# Altium schematic symbol library ic.SchLib: 55 symbols
Pins are listed as number, name and electrical type; pins without a type are passive.

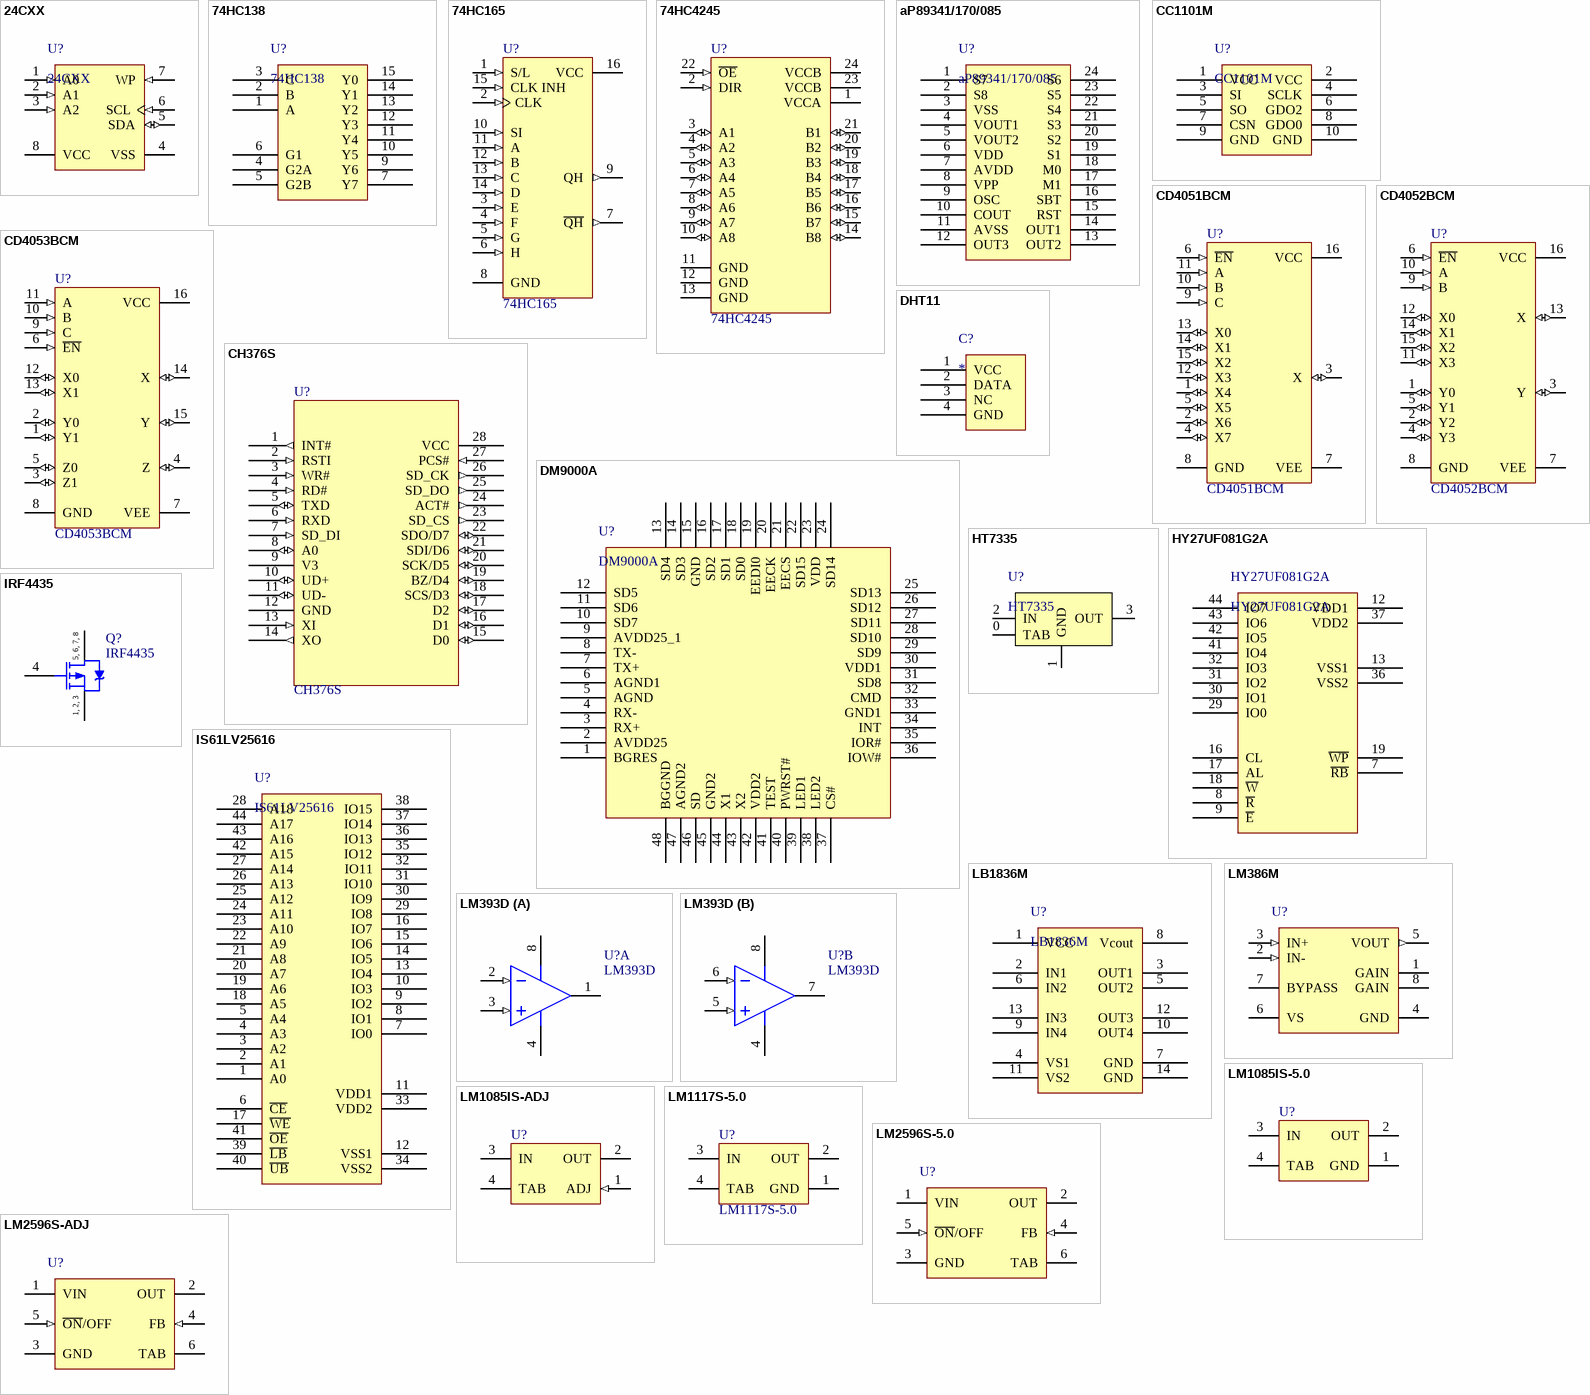
[diagram p0: symbols 24CXX to LM2596S-ADJ]

## 24CXX
designator U?
5V, I2C Serial EEPROM; Published: 29-Jan-2009; DatasheetVersion: revJ, Aug-2008; PackageVersion: revBB, Aug-2009; PackageReference: SOIC-SN8; Publisher: Altium Limited; PackageDescription: 8-Lead Plastic Small Outline (SN) - Narrow, 3.90mm Body [SOIC]; Supplier 1: Digi-Key; Supplier Part Number 1: 24C02C-E/SN-ND; Code_JEDEC: MS-012; Code_IPC: SOIC127P600-8; ComponentLink1Description: Datasheet; ComponentLink1URL: http://ww1.microchip.com/downloads/en/DeviceDoc/21202J.pdf; ComponentLink2Description: Packaging Specification; ComponentLink2URL: http://www.microchip.com/stellent/groups/techpub_sg/documents/packagingspec/en012702.pdf; ComponentLink3Description: Microchip.com Home; ComponentLink3URL: http://www.microchip.com/
footprint SO8_M (SOIC, 8-Leads, Body 4.9x3.9mm, Pitch 1.27mm, IPC Low Density)
pins: 1 A0 (in), 2 A1 (in), 3 A2 (in), 4 VSS (power), 5 SDA (io), 6 SCL (in), 7 WP (in), 8 VCC (power)

## 74HC138
designator U?
footprint SO16_M (SOIC, 16-Leads, Body 9.9x3.9mm, Pitch 1.27mm, IPC Low Density)
pins: 1 A (power), 2 B (power), 3 C (power), 4 G2A (power), 5 G2B (power), 6 G1 (power), 7 Y7, 9 Y6, 10 Y5, 11 Y4, 12 Y3, 13 Y2, 14 Y1, 15 Y0

## 74HC165
designator U?
8-Bit Parallel-Load Shift Register; Published: 8-Jun-2000; LatestRevisionDate: 13-Apr-2006; LatestRevisionNote: IPC-7351 Footprint Added.; DatasheetVersion: May-1997; PackageVersion: Jan-1998; PackageReference: D016; Publisher: Altium Limited; PackageDescription: 16-Pin Small Outline Integrated Circuit 1.27 mm Pitch; Code_IPC: SOIC127P600-16; ComponentLink1Description: Manufacturer Link; ComponentLink1URL: http://www.ti.com/; ComponentLink2Description: Datasheet; ComponentLink2URL: http://www-s.ti.com/sc/ds/sn74hc165.pdf
footprint SO16_M (SOIC, 16-Leads, Body 9.9x3.9mm, Pitch 1.27mm, IPC Low Density)
pins: 1 S/L (in), 2 CLK (in), 3 E (in), 4 F (in), 5 G (in), 6 H (in), 7 ~{QH} (out), 8 GND (power), 9 QH (out), 10 SI (in), 11 A (in), 12 B (in), 13 C (in), 14 D (in), 15 CLK INH (in), 16 VCC (power)

## 74HC4245
designator U?
Octal Bus Transceiver and 3.3-V to 5-V Shifter with 3-State Outputs; Published: 8-Jun-2000; LatestRevisionDate: 04-Mar-2005; LatestRevisionNote: Stylized 3D Model Added.; DatasheetVersion: Jan-1997; PackageVersion: May-1999; PackageReference: DB024; Publisher: Altium Limited; PackageDescription: SSOP, Plastic; 24 Leads; Body Width 5.3 mm; Pitch 0.65 mm; Code_JEDEC: MO-150-AG; ComponentLink1Description: Manufacturer Link; ComponentLink1URL: http://www.ti.com/
footprint SO24W (Small Outline; 24 Leads; Body Width 7.5 mm; Pitch 1.27 mm)
pins: 1 VCCA (power), 2 DIR (in), 3 A1 (io), 4 A2 (io), 5 A3 (io), 6 A4 (io), 7 A5 (io), 8 A6 (io), 9 A7 (io), 10 A8 (io), 11 GND (power), 12 GND (power), 13 GND (power), 14 B8 (io), 15 B7 (io), 16 B6 (io), 17 B5 (io), 18 B4 (io), 19 B3 (io), 20 B2 (io), 21 B1 (io), 22 ~{OE} (in), 23 VCCB (power), 24 VCCB (power)

## aP89341/170/085
designator U?
VOICE OTP IC
footprint DIP-24 (DIP, 24-Pin, Row Spacing 7.62 mm, Pitch 2.54 mm)
pins: 1 S7, 2 S8, 3 VSS, 4 VOUT1, 5 VOUT2, 6 VDD, 7 AVDD, 8 VPP, 9 OSC, 10 COUT, 11 AVSS, 12 OUT3, 13 OUT2, 14 OUT1, 15 RST, 16 SBT, 17 M1, 18 M0, 19 S1, 20 S2, 21 S3, 22 S4, 23 S5, 24 S6

## CC1101M
designator U?
footprint CC1101M
pins: 1 VCC, 2 VCC, 3 SI, 4 SCLK, 5 SO, 6 GDO2, 7 CSN, 8 GDO0, 9 GND, 10 GND

## CD4051BCM
designator U?
8-Channel Analog Multiplexer/Demultiplexer; Published: 17-Jul-2002; LatestRevisionDate: 13-Apr-2006; LatestRevisionNote: IPC-7351 Footprint Added.; DatasheetVersion: Jan-1999; PackageVersion: 2000; PackageReference: M16A; Publisher: Altium Limited; PackageDescription: 16-Pin Small Outline Integrated Circuit 1.27 mm Pitch; Code_IPC: SOIC127P600-16; ComponentLink1Description: Manufacturer Link; ComponentLink1URL: http://www.fairchildsemi.com/; ComponentLink2Description: Datasheet; ComponentLink2URL: http://www.fairchildsemi.com/ds/CD%2FCD4052BC.pdf
3D model M16A (16-Pin Small Outline Integrated Circuit 1.27 mm Pitch)
footprint SO16_M (SOIC, 16-Leads, Body 9.9x3.9mm, Pitch 1.27mm, IPC Low Density)
pins: 1 X4 (io), 2 X6 (io), 3 X (io), 4 X7 (io), 5 X5 (io), 6 ~{EN} (in), 7 VEE (power), 8 GND (power), 9 C (in), 10 B (in), 11 A (in), 12 X3 (io), 13 X0 (io), 14 X1 (io), 15 X2 (io), 16 VCC (power)

## CD4052BCM
designator U?
Dual 4-Channel Analog Multiplexer/Demultiplexer; Published: 17-Jul-2002; LatestRevisionDate: 13-Apr-2006; LatestRevisionNote: IPC-7351 Footprint Added.; DatasheetVersion: Jan-1999; PackageVersion: 2000; PackageReference: M16A; Publisher: Altium Limited; PackageDescription: 16-Pin Small Outline Integrated Circuit 1.27 mm Pitch; Code_IPC: SOIC127P600-16; ComponentLink1Description: Manufacturer Link; ComponentLink1URL: http://www.fairchildsemi.com/; ComponentLink2Description: Datasheet; ComponentLink2URL: http://www.fairchildsemi.com/ds/CD%2FCD4052BC.pdf
3D model M16A (16-Pin Small Outline Integrated Circuit 1.27 mm Pitch)
footprint SO16_M (SOIC, 16-Leads, Body 9.9x3.9mm, Pitch 1.27mm, IPC Low Density)
pins: 1 Y0 (io), 2 Y2 (io), 3 Y (io), 4 Y3 (io), 5 Y1 (io), 6 ~{EN} (in), 7 VEE (power), 8 GND (power), 9 B (in), 10 A (in), 11 X3 (io), 12 X0 (io), 13 X (io), 14 X1 (io), 15 X2 (io), 16 VCC (power)

## CD4053BCM
designator U?
Triple 2-Channnel Analog Multiplexer/Demutiplexer; Published: 17-Jul-2002; LatestRevisionDate: 13-Apr-2006; LatestRevisionNote: IPC-7351 Footprint Added.; DatasheetVersion: Jan-1999; PackageVersion: 2000; PackageReference: M16A; Publisher: Altium Limited; PackageDescription: 16-Pin Small Outline Integrated Circuit 1.27 mm Pitch; Code_IPC: SOIC127P600-16; ComponentLink1Description: Manufacturer Link; ComponentLink1URL: http://www.fairchildsemi.com/; ComponentLink2Description: Datasheet; ComponentLink2URL: http://www.fairchildsemi.com/ds/CD%2FCD4052BC.pdf
3D model M16A (16-Pin Small Outline Integrated Circuit 1.27 mm Pitch)
footprint SO16_M (SOIC, 16-Leads, Body 9.9x3.9mm, Pitch 1.27mm, IPC Low Density)
pins: 1 Y1 (io), 2 Y0 (io), 3 Z1 (io), 4 Z (io), 5 Z0 (io), 6 ~{EN} (in), 7 VEE (power), 8 GND (power), 9 C (in), 10 B (in), 11 A (in), 12 X0 (io), 13 X1 (io), 14 X (io), 15 Y (io), 16 VCC (power)

## CH376S
designator U?
USB Host and SD card Host with File System & USB Device for MCU, parallel / SPI / UART Serial
footprint SOIC127P1047-28M (SOIC, 28-Leads, Body 18.2x7.5mm, Pitch 1.27mm, IPC Low Density)
pins: 1 INT# (out), 2 RSTI (in), 3 WR# (in), 4 RD# (in), 5 TXD (io), 6 RXD (in), 7 SD_DI (in), 8 A0 (io), 9 V3 (power), 10 UD+ (io), 11 UD- (io), 12 GND (power), 13 XI (in), 14 XO (out), 15 D0 (io), 16 D1 (io), 17 D2 (io), 18 SCS/D3 (io), 19 BZ/D4 (io), 20 SCK/D5 (io), 21 SDI/D6 (io), 22 SDO/D7 (io), 23 SD_CS (out), 24 ACT# (out), 25 SD_DO (out), 26 SD_CK (out), 27 PCS# (in), 28 VCC (power)

## DHT11
designator C?
pins: 1 VCC, 2 DATA, 3 NC, 4 GND

## DM9000A
designator U?
footprint SQFP50P900X900-48M (Shrink QFP, 48-Leads, Body 7x7mm, Pitch 0.5mm, IPC Low Density)
footprint SQFP50P900X900-48N (Shrink QFP, 48-Leads, Body 7x7mm, Pitch 0.5mm, IPC Medium Density)
pins: 1 BGRES, 2 AVDD25, 3 RX+, 4 RX-, 5 AGND, 6 AGND1, 7 TX+, 8 TX-, 9 AVDD25_1, 10 SD7, 11 SD6, 12 SD5, 13 SD4, 14 SD3, 15 GND, 16 SD2, 17 SD1, 18 SD0, 19 EEDI0, 20 EECK, 21 EECS, 22 SD15, 23 VDD, 24 SD14, 25 SD13, 26 SD12, 27 SD11, 28 SD10, 29 SD9, 30 VDD1, 31 SD8, 32 CMD, 33 GND1, 34 INT, 35 IOR#, 36 IOW#, 37 CS#, 38 LED2, 39 LED1, 40 PWRST#, 41 TEST, 42 VDD2, 43 X2, 44 X1, 45 GND2, 46 SD, 47 AGND2, 48 BGGND

## HT7335
designator U?
footprint SOT89M (SOT, 3-Leads, Body 4.6 x 2.6 mm, Pitch 1.5mm, IPC Low Density)
pins: 0 TAB, 1 GND, 2 IN, 3 OUT

## HY27UF081G2A
designator HY27UF081G2A
footprint TSSOP50P2000-48AM (TSSOP, 48-Leads, Body 12x18.4mm, Pitch 0.5mm, IPC Low Density)
footprint TSSOP50P2000-48AN (TSSOP, 48-Leads, Body 12x18.4mm, Pitch 0.5mm, IPC Medium Density)
pins: 1 NC hidden, 2 NC hidden, 3 NC hidden, 4 NC hidden, 5 NC hidden, 6 NC hidden, 7 ~{RB}, 8 ~{R}, 9 ~{E}, 10 NC hidden, 11 NC hidden, 12 VDD1, 13 VSS1, 14 NC hidden, 15 NC hidden, 16 CL, 17 AL, 18 ~{W}, 19 ~{WP}, 20 NC hidden, 21 NC hidden, 22 NC hidden, 23 NC hidden, 24 NC hidden, 25 NC hidden, 26 NC hidden, 27 NC hidden, 28 NC hidden, 29 IO0, 30 IO1, 31 IO2, 32 IO3, 33 NC hidden, 34 NC hidden, 35 NC hidden, 36 VSS2, 37 VDD2, 38 NC hidden, 39 NC hidden, 40 NC hidden, 41 IO4, 42 IO5, 43 IO6, 44 IO7, 45 NC hidden, 46 NC hidden, 47 NC hidden, 48 NC hidden

## IRF4435
designator Q?
HEXFET Power MOSFET; Published: 17-Sep-2003; LatestRevisionDate: 13-Apr-2006; LatestRevisionNote: IPC-7351 Footprint Added.; DatasheetVersion: 12-Jun-2001; PackageVersion: Feb-2001; PackageReference: SO-8; Publisher: Altium Limited; PackageDescription: 8-Pin Plastic Small Outline Integrated Circuit 1.27 mm Pitch; Code_JEDEC: MS-012-AA; Code_IPC: SOIC127P600-8; ComponentLink1Description: Manufacturer Link; ComponentLink1URL: http://www.irf.com/; ComponentLink2Description: Datasheet; ComponentLink2URL: http://www.irf.com/product-info/datasheets/data/IRF4435.pdf
footprint SO8_M (SOIC, 8-Leads, Body 4.9x3.9mm, Pitch 1.27mm, IPC Low Density)
pins: 1 S, 2 S, 3 S, 4 G, 5 D, 6 D, 7 D, 8 D
text: 5, 6, 7, 8; 1, 2, 3

## IS61LV25616
designator U?
footprint SOP80P1176-44M (SOP, 44-Leads, Body 18.4x10.16mm, Pitch 0.8mm, IPC Low Density)
footprint SOP80P1176-44N (SOP, 44-Leads, Body 18.4x10.16mm, Pitch 0.8mm, IPC Medium Density)
pins: 1 A0, 2 A1, 3 A2, 4 A3, 5 A4, 6 ~{CE}, 7 IO0, 8 IO1, 9 IO2, 10 IO3, 11 VDD1, 12 VSS1, 13 IO4, 14 IO5, 15 IO6, 16 IO7, 17 ~{WE}, 18 A5, 19 A6, 20 A7, 21 A8, 22 A9, 23 A10, 24 A11, 25 A12, 26 A13, 27 A14, 28 A18, 29 IO8, 30 IO9, 31 IO10, 32 IO11, 33 VDD2, 34 VSS2, 35 IO12, 36 IO13, 37 IO14, 38 IO15, 39 ~{LB}, 40 ~{UB}, 41 ~{OE}, 42 A15, 43 A16, 44 A17

## LB1836M
designator U?
footprint SOP100P800-14M
pins: 1 VCC, 2 IN1, 3 OUT1, 4 VS1, 5 OUT2, 6 IN2, 7 GND, 8 Vcout, 9 IN4, 10 OUT4, 11 VS2, 12 OUT3, 13 IN3, 14 GND

## LM386M
designator U?
Low Voltage Audio Power Amplifier, 8-pin Narrow SOIC; PartNumber: LM386M-1; Manufacturer: National Semiconductor; PackageTopMarking: NSZXTT*LM386*M-1; PowerWise: N; CompType: Audio IC; Published: 4-Dec-2008; DatasheetVersion: Aug-2000; PackageVersion: revM, May-2009; PackageReference: M08A; Publisher: Altium Limited; PackageDescription: SOIC Narrow, 4.9 x 3.9 x 1.45mm, 8 Lead, 1.27mm Pitch; Supplier 1: Farnell; Supplier Part Number 1: 9488324; RoHS: N; PinCount: 8; Code_JEDEC: MS-012-AA; Code_IPC: SOIC127P600-8; ComponentLink1Description: LM386 Datasheet; ComponentLink1URL: http://www.national.com/ds/LM/LM386.pdf; ComponentLink2Description: LM386 Web Page; ComponentLink2URL: http://www.national.com/pf/LM/LM386.html; ComponentLink3Description: M08A Package Page; ComponentLink3URL: http://www.national.com/packaging/folders/m08a.html
footprint SO8_M (SOIC, 8-Leads, Body 4.9x3.9mm, Pitch 1.27mm, IPC Low Density)
pins: 1 GAIN, 2 IN- (in), 3 IN+ (in), 4 GND (power), 5 VOUT (out), 6 VS (power), 7 BYPASS, 8 GAIN

## LM393D
designator U?
Low-Power Dual Voltage Comparator; Published: 24-Aug-2001; LatestRevisionDate: 13-Apr-2006; LatestRevisionNote: IPC-7351 Footprint Added.; DatasheetVersion: Jun-1998; PackageVersion: Dec-2002; PackageReference: SO8; Publisher: Altium Limited; PackageDescription: 8-Pin Small Outline Integrated Circuit 1.27 mm Pitch; Code_JEDEC: MS-012-AA; Code_IPC: SOIC127P600-8; ComponentLink1Description: Manufacturer Link; ComponentLink1URL: http://www.st.com/; ComponentLink2Description: Datasheet; ComponentLink2URL: http://www.st.com/stonline/products/literature/ds/2164/lm293.pdf
3D model SO8 (8-Pin Small Outline Integrated Circuit 1.27 mm Pitch)
footprint SO8_M (SOIC, 8-Leads, Body 4.9x3.9mm, Pitch 1.27mm, IPC Low Density)
pins on every part: 4 V- (power), 8 V+ (power)
part A pins: 1 OUT (oc), 2 IN- (in), 3 IN+ (in)
part B pins: 5 IN+ (in), 6 IN- (in), 7 OUT (oc)

## LM1085IS-5.0
designator U?
3A Low Dropout Positive Regulators, 3-pin TO-263; PartNumber: LM1085IS-5.0; Manufacturer: National Semiconductor; PackageTopMarking: NSUZXYTTE#*LM1085*IS-5.0; PowerWise: N; CompType: LDO IC; Published: 4-Dec-2008; DatasheetVersion: Jun-2005; PackageVersion: revF, Apr-2005; PackageReference: TS3B; Publisher: Altium Limited; PackageDescription: TO-263, Molded, .400 x .390 x .180in, 3 Lead, .1in Pitch, Surface Mount; RoHS: N; PinCount: 3; Code_JEDEC: MO-169-AA; ComponentLink1Description: LM1085 Datasheet; ComponentLink1URL: http://www.national.com/ds/LM/LM1085.pdf; ComponentLink2Description: LM1085 Web Page; ComponentLink2URL: http://www.national.com/pf/LM/LM1085.html; ComponentLink3Description: TS3B Package Page; ComponentLink3URL: http://www.national.com/packaging/folders/ts3b.html
footprint TS3B_M (D2-PAK, 4-Leads, Body 8.6x10.2mm, Pitch 2.54mm, Lead Span 14.2mm, IPC Low Density)
pins: 1 GND (power), 2 OUT (power), 3 IN (power), 4 TAB (power)

## LM1085IS-ADJ
designator U?
3A Low Dropout Positive Regulators, 3-pin TO-263; PartNumber: LM1085IS-ADJ; Manufacturer: National Semiconductor; PackageTopMarking: NSUZXYTTE#*LM1085*IS-ADJ; PowerWise: N; CompType: LDO IC; Published: 4-Dec-2008; DatasheetVersion: Jun-2005; PackageVersion: revF, Apr-2005; PackageReference: TS3B; Publisher: Altium Limited; PackageDescription: TO-263, Molded, .400 x .390 x .180in, 3 Lead, .1in Pitch, Surface Mount; Supplier 1: Farnell; Supplier Part Number 1: 7614020; RoHS: N; PinCount: 3; Code_JEDEC: MO-169-AA; ComponentLink1Description: LM1085 Datasheet; ComponentLink1URL: http://www.national.com/ds/LM/LM1085.pdf; ComponentLink2Description: LM1085 Web Page; ComponentLink2URL: http://www.national.com/pf/LM/LM1085.html; ComponentLink3Description: TS3B Package Page; ComponentLink3URL: http://www.national.com/packaging/folders/ts3b.html
footprint TS3B_M (D2-PAK, 4-Leads, Body 8.6x10.2mm, Pitch 2.54mm, Lead Span 14.2mm, IPC Low Density)
pins: 1 ADJ (in), 2 OUT (power), 3 IN (power), 4 TAB (power)

## LM1117S-5.0
designator U?
800mA Low-Dropout Linear Regulator; Manufacturer: National Semiconductor; CompType: LDO IC; PackageTopMarking: NSUZXYTTE#*LM1117S*5.0; Published: 4-Dec-2008; DatasheetVersion: Apr-2006; PackageVersion: revF, Apr-2005; PackageReference: TS3B; Publisher: Altium Limited; PackageDescription: TO-263, Molded, .400 x .390 x .180in, 3 Lead, .1in Pitch, Surface Mount; PartNumber: LM1117S-5.0; RoHS: Y; PinCount: 3; DigiKeyPartNumber: LM1117S-5.0-ND; Code_JEDEC: MO-169-AA; ComponentLink1Description: LM1117 Datasheet; ComponentLink1URL: http://www.national.com/ds/LM/LM1117.pdf; ComponentLink2Description: LM1117 Web Page; ComponentLink2URL: http://www.national.com/pf/LM/LM1117.html; ComponentLink3Description: TS3B Package Page; ComponentLink3URL: http://www.national.com/packaging/folders/ts3b.html
footprint TS3B_N (D2-PAK, 4-Leads, Body 8.6x10.2mm, Pitch 2.54mm, Lead Span 14.2mm, IPC Medium Density)
footprint TS3B_L (D2-PAK, 4-Leads, Body 8.6x10.2mm, Pitch 2.54mm, Lead Span 14.2mm, IPC High Density)
footprint TS3B_M (D2-PAK, 4-Leads, Body 8.6x10.2mm, Pitch 2.54mm, Lead Span 14.2mm, IPC Low Density)
footprint SOT223-4M (SOT223/SC73, 4-Leads, Body 6.5x3.5mm, Pitch 2.3mm, Lead Span 7mm, IPC Low Density)
pins: 1 GND (power), 2 OUT (power), 3 IN (power), 4 TAB (power)

## LM2596S-5.0
designator U?
SIMPLE SWITCHER?Power Converter 150 KHz 3A Step-Down Voltage Regulator, 5-pin TO-263; PartNumber: LM2596S-5.0; Manufacturer: National Semiconductor; PackageTopMarking: NSUZXYTTE#*LM2596S*-5.0 P+; PowerWise: N; Published: 4-Dec-2008; DatasheetVersion: May-2002; PackageVersion: revD, Apr-2005; PackageReference: TS5B; Publisher: Altium Limited; PackageDescription: TO-263, Molded, .400 x .390 x .180in, 5 Lead, .067in Pitch, Surface Mount; Supplier 1: Farnell; Supplier Part Number 1: 1214546; RoHS: N; PinCount: 5; CompType: Switcher; Code_JEDEC: MO-169-AB; ComponentLink1Description: LM2596 Datasheet; ComponentLink1URL: http://www.national.com/ds/LM/LM2596.pdf; ComponentLink2Description: LM2596 Web Page; ComponentLink2URL: http://www.national.com/pf/LM/LM2596.html; ComponentLink3Description: TS5B Package Page; ComponentLink3URL: http://www.national.com/packaging/folders/ts5b.html
footprint TS5B_N (D2-PAK, 6-Leads, Body 8.6x10.2mm, Pitch 1.7mm, Lead Span 14.1mm, IPC Medium Density)
footprint TS5B_M (D2-PAK, 6-Leads, Body 8.6x10.2mm, Pitch 1.7mm, Lead Span 14.1mm, IPC Low Density)
pins: 1 VIN (power), 2 OUT (power), 3 GND (power), 4 FB (in), 5 ~{ON}/OFF (in), 6 TAB (power)

## LM2596S-ADJ
designator U?
SIMPLE SWITCHER?Power Converter 150 KHz 3A Step-Down Voltage Regulator, 5-pin TO-263; PartNumber: LM2596S-ADJ; Manufacturer: National Semiconductor; PackageTopMarking: NSUZXYTTE#*LM2596S*-ADJ P+; PowerWise: N; Published: 4-Dec-2008; DatasheetVersion: May-2002; PackageVersion: revD, Apr-2005; PackageReference: TS5B; Publisher: Altium Limited; PackageDescription: TO-263, Molded, .400 x .390 x .180in, 5 Lead, .067in Pitch, Surface Mount; Supplier 1: Farnell; Supplier Part Number 1: 1523864; Supplier 2: Farnell; Supplier Part Number 2: 9494367; RoHS: N; PinCount: 5; CompType: Switcher; Code_JEDEC: MO-169-AB; ComponentLink1Description: LM2596 Datasheet; ComponentLink1URL: http://www.national.com/ds/LM/LM2596.pdf; ComponentLink2Description: LM2596 Web Page; ComponentLink2URL: http://www.national.com/pf/LM/LM2596.html; ComponentLink3Description: TS5B Package Page; ComponentLink3URL: http://www.national.com/packaging/folders/ts5b.html
footprint TS5B_N (D2-PAK, 6-Leads, Body 8.6x10.2mm, Pitch 1.7mm, Lead Span 14.1mm, IPC Medium Density)
footprint TS5B_M (D2-PAK, 6-Leads, Body 8.6x10.2mm, Pitch 1.7mm, Lead Span 14.1mm, IPC Low Density)
pins: 1 VIN (power), 2 OUT (power), 3 GND (power), 4 FB (in), 5 ~{ON}/OFF (in), 6 TAB (power)

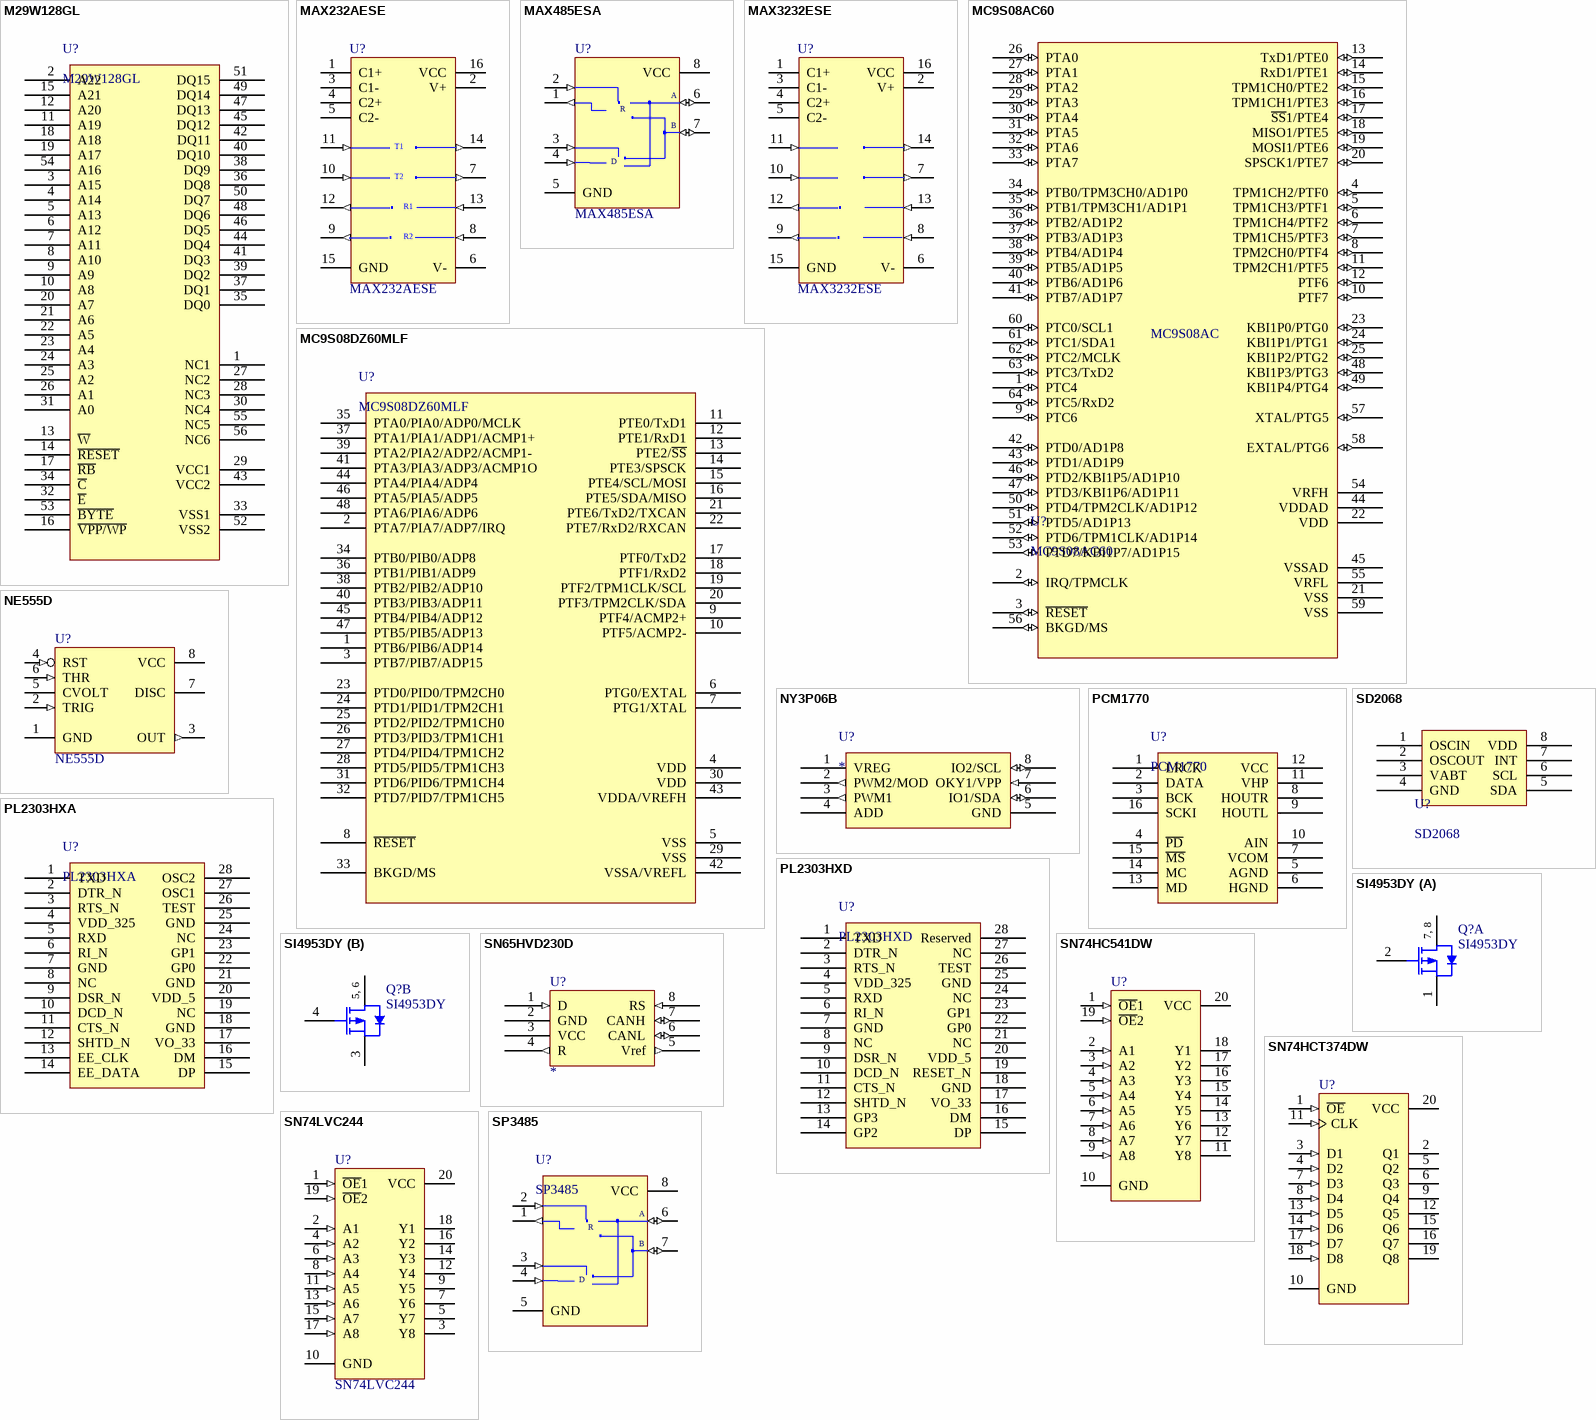
[diagram p1: symbols M29W128GL to SP3485]

## M29W128GL
designator U?
footprint TSSOP50P2000-56M (TSSOP, 56-Leads, Body 14x18.4mm, Pitch 0.5mm, IPC Low Density)
footprint TSSOP50P2000-56N (TSSOP, 56-Leads, Body 14x18.4mm, Pitch 0.5mm, IPC Medium Density)
pins: 1 NC1, 2 A22, 3 A15, 4 A14, 5 A13, 6 A12, 7 A11, 8 A10, 9 A9, 10 A8, 11 A19, 12 A20, 13 ~{W}, 14 ~{RESET}, 15 A21, 16 ~{VPP/WP}, 17 ~{RB}, 18 A18, 19 A17, 20 A7, 21 A6, 22 A5, 23 A4, 24 A3, 25 A2, 26 A1, 27 NC2, 28 NC3, 29 VCC1, 30 NC4, 31 A0, 32 ~{E}, 33 VSS1, 34 ~{C}, 35 DQ0, 36 DQ8, 37 DQ1, 38 DQ9, 39 DQ2, 40 DQ10, 41 DQ3, 42 DQ11, 43 VCC2, 44 DQ4, 45 DQ12, 46 DQ5, 47 DQ13, 48 DQ6, 49 DQ14, 50 DQ7, 51 DQ15, 52 VSS2, 53 ~{BYTE}, 54 A16, 55 NC5, 56 NC6

## MAX232AESE
designator U?
+5V-Powered, Multichannel RS-232 Driver/Receiver; Published: 16-Jan-2001; LatestRevisionDate: 13-Apr-2006; LatestRevisionNote: IPC-7351 Footprint Added.; DatasheetVersion: Nov-1997; PackageReference: NSO16; Publisher: Altium Limited; PackageDescription: 16-Pin Small Outline Integrated Circuit 1.27 mm Pitch; Code_JEDEC: MS-012-AC; Code_IPC: SOIC127P600-16; ComponentLink1Description: Manufacturer Link; ComponentLink1URL: http://www.maxim-ic.com/; ComponentLink2Description: Datasheet; ComponentLink2URL: http://pdfserv.maxim-ic.com/en/ds/MAX220-MAX249.pdf
3D model NSO16 (16-Pin Small Outline Integrated Circuit 1.27 mm Pitch)
footprint SO16_M (SOIC, 16-Leads, Body 9.9x3.9mm, Pitch 1.27mm, IPC Low Density)
pins: 1 C1+, 2 V+ (power), 3 C1-, 4 C2+, 5 C2-, 6 V- (power), 7 T2OUT (out), 8 R2IN (in), 9 R2OUT (out), 10 T2IN (in), 11 T1IN (in), 12 R1OUT (out), 13 R1IN (in), 14 T1OUT (out), 15 GND (power), 16 VCC (power)
text: T1; T2; R1; R2

## MAX485ESA
designator U?
Low-Power, Slew-Rate-Limited RS-485/RS-422 Transceiver; Published: 16-Jan-2001; LatestRevisionDate: 13-Apr-2006; LatestRevisionNote: IPC-7351 Footprint Added.; DatasheetVersion: Feb-1996; PackageReference: NSO8; Publisher: Altium Limited; PackageDescription: 8-Pin Small Outline Integrated Circuit 1.27 mm Pitch; Code_JEDEC: MS-012-AA; Code_IPC: SOIC127P600-8; ComponentLink1Description: Manufacturer Link; ComponentLink1URL: http://www.maxim-ic.com/; ComponentLink2Description: Datasheet; ComponentLink2URL: http://pdfserv.maxim-ic.com/en/ds/MAX1487-MAX491.pdf
3D model NSO8 (8-Pin Small Outline Integrated Circuit 1.27 mm Pitch)
footprint SO8_M (SOIC, 8-Leads, Body 4.9x3.9mm, Pitch 1.27mm, IPC Low Density)
pins: 1 RO (out), 2 ~{RE} (in), 3 DE (in), 4 DI (in), 5 GND (power), 6 A (io), 7 B (io), 8 VCC (power)
text: R; D

## MAX3232ESE
designator U?
3.0V TO 5.5V, Low-Power, up to 1Mbps, True RS-232 Transceiver Using Four 0.1礔 External Capacitor; Published: 16-Jan-2001; LatestRevisionDate: 13-Apr-2006; LatestRevisionNote: IPC-7351 Footprint Added.; DatasheetVersion: Mar-1999; PackageReference: NSO16; Publisher: Altium Limited; PackageDescription: 16-Pin Small Outline Integrated Circuit 1.27 mm Pitch; Code_JEDEC: MS-012-AC; Code_IPC: SOIC127P600-16; ComponentLink1Description: Manufacturer Link; ComponentLink1URL: http://www.maxim-ic.com/; ComponentLink2Description: Datasheet; ComponentLink2URL: http://pdfserv.maxim-ic.com/en/ds/MAX3222-MAX3241.pdf
3D model NSO16 (16-Pin Small Outline Integrated Circuit 1.27 mm Pitch)
footprint SO16_M (SOIC, 16-Leads, Body 9.9x3.9mm, Pitch 1.27mm, IPC Low Density)
pins: 1 C1+, 2 V+ (power), 3 C1-, 4 C2+, 5 C2-, 6 V- (power), 7 T2OUT (out), 8 R2IN (in), 9 R2OUT (out), 10 T2IN (in), 11 T1IN (in), 12 R1OUT (out), 13 R1IN (in), 14 T1OUT (out), 15 GND (power), 16 VCC (power)

## MC9S08AC60
designator U?  value MC9S08AC
HCS08 MC9S08AC60
footprint QFP80P1720X1720-64N (QFP, 64-Leads, Body 14x14mm, Pitch 0.8mm, IPC Medium Density)
footprint QFP80P1720X1720-64M (QFP, 64-Leads, Body 14x14mm, Pitch 0.8mm, IPC Low Density)
pins: 1 PTC4 (io), 2 IRQ/TPMCLK (io), 3 ~{RESET} (io), 4 TPM1CH2/PTF0 (io), 5 TPM1CH3/PTF1 (io), 6 TPM1CH4/PTF2 (io), 7 TPM1CH5/PTF3 (io), 8 TPM2CH0/PTF4 (io), 9 PTC6 (io), 10 PTF7 (io), 11 TPM2CH1/PTF5 (io), 12 PTF6 (io), 13 TxD1/PTE0 (io), 14 RxD1/PTE1 (io), 15 TPM1CH0/PTE2 (io), 16 TPM1CH1/PTE3 (io), 17 ~{SS}1/PTE4 (io), 18 MISO1/PTE5 (io), 19 MOSI1/PTE6 (io), 20 SPSCK1/PTE7 (io), 21 VSS, 22 VDD, 23 KBI1P0/PTG0 (io), 24 KBI1P1/PTG1 (io), 25 KBI1P2/PTG2 (io), 26 PTA0 (io), 27 PTA1 (io), 28 PTA2 (io), 29 PTA3 (io), 30 PTA4 (io), 31 PTA5 (io), 32 PTA6 (io), 33 PTA7 (io), 34 PTB0/TPM3CH0/AD1P0 (io), 35 PTB1/TPM3CH1/AD1P1 (io), 36 PTB2/AD1P2 (io), 37 PTB3/AD1P3 (io), 38 PTB4/AD1P4 (io), 39 PTB5/AD1P5 (io), 40 PTB6/AD1P6 (io), 41 PTB7/AD1P7 (io), 42 PTD0/AD1P8 (io), 43 PTD1/AD1P9 (io), 44 VDDAD, 45 VSSAD, 46 PTD2/KBI1P5/AD1P10 (io), 47 PTD3/KBI1P6/AD1P11 (io), 48 KBI1P3/PTG3 (io), 49 KBI1P4/PTG4 (io), 50 PTD4/TPM2CLK/AD1P12 (io), 51 PTD5/AD1P13 (io), 52 PTD6/TPM1CLK/AD1P14 (io), 53 PTD7/KBI1P7/AD1P15 (io), 54 VRFH, 55 VRFL, 56 BKGD/MS (io), 57 XTAL/PTG5 (io), 58 EXTAL/PTG6 (io), 59 VSS, 60 PTC0/SCL1 (io), 61 PTC1/SDA1 (io), 62 PTC2/MCLK (io), 63 PTC3/TxD2 (io), 64 PTC5/RxD2 (io)

## MC9S08DZ60MLF
designator U?
footprint SQFP50P900X900-48M (Shrink QFP, 48-Leads, Body 7x7mm, Pitch 0.5mm, IPC Low Density)
footprint SQFP50P900X900-48N (Shrink QFP, 48-Leads, Body 7x7mm, Pitch 0.5mm, IPC Medium Density)
pins: 1 PTB6/PIB6/ADP14, 2 PTA7/PIA7/ADP7/IRQ, 3 PTB7/PIB7/ADP15, 4 VDD, 5 VSS, 6 PTG0/EXTAL, 7 PTG1/XTAL, 8 ~{RESET}, 9 PTF4/ACMP2+, 10 PTF5/ACMP2-, 11 PTE0/TxD1, 12 PTE1/RxD1, 13 PTE2/~{SS}, 14 PTE3/SPSCK, 15 PTE4/SCL/MOSI, 16 PTE5/SDA/MISO, 17 PTF0/TxD2, 18 PTF1/RxD2, 19 PTF2/TPM1CLK/SCL, 20 PTF3/TPM2CLK/SDA, 21 PTE6/TxD2/TXCAN, 22 PTE7/RxD2/RXCAN, 23 PTD0/PID0/TPM2CH0, 24 PTD1/PID1/TPM2CH1, 25 PTD2/PID2/TPM1CH0, 26 PTD3/PID3/TPM1CH1, 27 PTD4/PID4/TPM1CH2, 28 PTD5/PID5/TPM1CH3, 29 VSS, 30 VDD, 31 PTD6/PID6/TPM1CH4, 32 PTD7/PID7/TPM1CH5, 33 BKGD/MS, 34 PTB0/PIB0/ADP8, 35 PTA0/PIA0/ADP0/MCLK, 36 PTB1/PIB1/ADP9, 37 PTA1/PIA1/ADP1/ACMP1+, 38 PTB2/PIB2/ADP10, 39 PTA2/PIA2/ADP2/ACMP1-, 40 PTB3/PIB3/ADP11, 41 PTA3/PIA3/ADP3/ACMP1O, 42 VSSA/VREFL, 43 VDDA/VREFH, 44 PTA4/PIA4/ADP4, 45 PTB4/PIB4/ADP12, 46 PTA5/PIA5/ADP5, 47 PTB5/PIB5/ADP13, 48 PTA6/PIA6/ADP6

## NE555D
designator U?
Precision Timer; Published: 16-Jan-2001; LatestRevisionDate: 13-Apr-2006; LatestRevisionNote: IPC-7351 Footprint Added.; DatasheetVersion: Feb-1992; PackageVersion: Jan-1998; PackageReference: D008; Publisher: Altium Limited; PackageDescription: 8-Pin Small Outline Integrated Circuit 1.27 mm Pitch; Code_IPC: SOIC127P600-8; ComponentLink1Description: Manufacturer Link; ComponentLink1URL: http://www.ti.com/; ComponentLink2Description: Datasheet; ComponentLink2URL: http://www-s.ti.com/sc/ds/ne555.pdf
footprint SO8_M (SOIC, 8-Leads, Body 4.9x3.9mm, Pitch 1.27mm, IPC Low Density)
pins: 1 GND (power), 2 TRIG (in), 3 OUT (out), 4 RST (in), 5 CVOLT, 6 THR (in), 7 DISC (oc), 8 VCC (power)

## NY3P06B
designator U?
footprint DIP-8 (DIP, 8-Pin, Row Spacing 7.62 mm, Pitch 2.54 mm)
pins: 1 VREG (power), 2 PWM2/MOD (out), 3 PWM1 (out), 4 ADD (power), 5 GND (power), 6 IO1/SDA (io), 7 OKY1/VPP (in), 8 IO2/SCL (io)

## PCM1770
designator U?
PCM1770语音DAC
footprint TSOP65P640-16AM (TSOP, 16-Leads, Body 5x4.4mm, Pitch 0.65mm, IPC Low Density)
pins: 1 LRCK, 2 DATA, 3 BCK, 4 ~{PD}, 5 AGND, 6 HGND, 7 VCOM, 8 HOUTR, 9 HOUTL, 10 AIN, 11 VHP, 12 VCC, 13 MD, 14 MC, 15 ~{MS}, 16 SCKI

## PL2303HXA
designator U?
footprint SOP65P780-28M (SOP, 28-Leads, Body 10.2x5.3mm, Pitch 0.65mm, IPC Low Density)
pins: 1 TXD, 2 DTR_N, 3 RTS_N, 4 VDD_325, 5 RXD, 6 RI_N, 7 GND, 8 NC, 9 DSR_N, 10 DCD_N, 11 CTS_N, 12 SHTD_N, 13 EE_CLK, 14 EE_DATA, 15 DP, 16 DM, 17 VO_33, 18 GND, 19 NC, 20 VDD_5, 21 GND, 22 GP0, 23 GP1, 24 NC, 25 GND, 26 TEST, 27 OSC1, 28 OSC2

## PL2303HXD
designator U?
footprint SOP65P780-28M (SOP, 28-Leads, Body 10.2x5.3mm, Pitch 0.65mm, IPC Low Density)
pins: 1 TXD, 2 DTR_N, 3 RTS_N, 4 VDD_325, 5 RXD, 6 RI_N, 7 GND, 8 NC, 9 DSR_N, 10 DCD_N, 11 CTS_N, 12 SHTD_N, 13 GP3, 14 GP2, 15 DP, 16 DM, 17 VO_33, 18 GND, 19 RESET_N, 20 VDD_5, 21 NC, 22 GP0, 23 GP1, 24 NC, 25 GND, 26 TEST, 27 NC, 28 Reserved

## SD2068
designator U?
实时时钟
footprint SO8_M (SOIC, 8-Leads, Body 4.9x3.9mm, Pitch 1.27mm, IPC Low Density)
pins: 1 OSCIN, 2 OSCOUT, 3 VABT, 4 GND, 5 SDA, 6 SCL, 7 INT, 8 VDD

## SI4953DY
designator Q?
Dual P-Channel 30V (D-S) Rated  MOSFET; Published: 8-Jun-2000; LatestRevisionDate: 13-Apr-2006; LatestRevisionNote: IPC-7351 Footprint Added.; DatasheetVersion: 6-Oct-1997; PackageVersion: Aug-1998; PackageReference: SO-8; Publisher: Altium Limited; PackageDescription: 8-Pin Small Outline Integrated Circuit 1.27 mm Pitch; ComponentLink1Description: Manufacturer Link; ComponentLink1URL: http://www.vishay.com/; ComponentLink2Description: Datasheet; ComponentLink2URL: http://www.vishay.com/docs/70153/70153.pdf
3D model SO-8 (8-Pin Small Outline Integrated Circuit 1.27 mm Pitch)
footprint SO8_M (SOIC, 8-Leads, Body 4.9x3.9mm, Pitch 1.27mm, IPC Low Density)
part A pins: 1 S, 2 G, 7 D, 8 D
part B pins: 3 S, 4 G, 5 D, 6 D
part A text: 7, 8
part B text: 5, 6

## SN65HVD230D
designator U?
footprint SO8_M (SOIC, 8-Leads, Body 4.9x3.9mm, Pitch 1.27mm, IPC Low Density)
pins: 1 D (in), 2 GND (power), 3 VCC (power), 4 R (out), 5 Vref (out), 6 CANL (io), 7 CANH (io), 8 RS (in)

## SN74HC541DW
designator U?
Octal Buffer/Driver with 3-State Outputs; Published: 8-Jun-2000; LatestRevisionDate: 13-Apr-2006; LatestRevisionNote: IPC-7351 Footprint Added.; DatasheetVersion: May-1997; PackageVersion: Mar-2000; PackageReference: DW020; Publisher: Altium Limited; PackageDescription: 20-Pin Plastic Small Outline Integrated Circuit 1.27 mm Pitch; Code_JEDEC: MS-013; Code_IPC: SOIC127P1030-20; ComponentLink1Description: Manufacturer Link; ComponentLink1URL: http://www.ti.com/; ComponentLink2Description: Datasheet; ComponentLink2URL: http://www-s.ti.com/sc/ds/sn74hc541.pdf
footprint SO20W (SOIC, 20-Leads, Body 12.8x7.5mm, Pitch 1.27mm, IPC Low Density)
pins: 1 ~{OE}1 (in), 2 A1 (in), 3 A2 (in), 4 A3 (in), 5 A4 (in), 6 A5 (in), 7 A6 (in), 8 A7 (in), 9 A8 (in), 10 GND (power), 11 Y8 (hiz), 12 Y7 (hiz), 13 Y6 (hiz), 14 Y5 (hiz), 15 Y4 (hiz), 16 Y3 (hiz), 17 Y2 (hiz), 18 Y1 (hiz), 19 ~{OE}2 (in), 20 VCC (power)

## SN74HCT374DW
designator U?
Octal Edge-Triggered D-Type Flip-Flop with 3-State Outputs; Published: 8-Jun-2000; LatestRevisionDate: 13-Apr-2006; LatestRevisionNote: IPC-7351 Footprint Added.; DatasheetVersion: May-1997; PackageVersion: Mar-2000; PackageReference: DW020; Publisher: Altium Limited; PackageDescription: 20-Pin Plastic Small Outline Integrated Circuit 1.27 mm Pitch; Code_JEDEC: MS-013; Code_IPC: SOIC127P1030-20; ComponentLink1Description: Manufacturer Link; ComponentLink1URL: http://www.ti.com/; ComponentLink2Description: Datasheet; ComponentLink2URL: http://www-s.ti.com/sc/ds/sn74hct374.pdf
footprint SO20W (SOIC, 20-Leads, Body 12.8x7.5mm, Pitch 1.27mm, IPC Low Density)
pins: 1 ~{OE} (in), 2 Q1 (hiz), 3 D1 (in), 4 D2 (in), 5 Q2 (hiz), 6 Q3 (hiz), 7 D3 (in), 8 D4 (in), 9 Q4 (hiz), 10 GND (power), 11 CLK (in), 12 Q5 (hiz), 13 D5 (in), 14 D6 (in), 15 Q6 (hiz), 16 Q7 (hiz), 17 D7 (in), 18 D8 (in), 19 Q8 (hiz), 20 VCC (power)

## SN74LVC244
designator U?
Octal Buffer/Driver with 3-State Outputs; Published: 8-Jun-2000; LatestRevisionDate: 13-Apr-2006; LatestRevisionNote: IPC-7351 Footprint Added.; DatasheetVersion: Apr-1999; PackageVersion: Mar-2000; PackageReference: DW020; Publisher: Altium Limited; PackageDescription: 20-Pin Plastic Small Outline Integrated Circuit 1.27 mm Pitch; Code_JEDEC: MS-013; Code_IPC: SOIC127P1030-20; ComponentLink1Description: Manufacturer Link; ComponentLink1URL: http://www.ti.com/; ComponentLink2Description: Datasheet; ComponentLink2URL: http://www-s.ti.com/sc/ds/sn74lvc244a.pdf
3D model DW020 (20-Pin Plastic Small Outline Integrated Circuit 1.27 mm Pitch)
footprint SO20W (SOIC, 20-Leads, Body 12.8x7.5mm, Pitch 1.27mm, IPC Low Density)
pins: 1 ~{OE}1 (in), 2 A1 (in), 3 Y8 (hiz), 4 A2 (in), 5 Y7 (hiz), 6 A3 (in), 7 Y6 (hiz), 8 A4 (in), 9 Y5 (hiz), 10 GND (power), 11 A5 (in), 12 Y4 (hiz), 13 A6 (in), 14 Y3 (hiz), 15 A7 (in), 16 Y2 (hiz), 17 A8 (in), 18 Y1 (hiz), 19 ~{OE}2 (in), 20 VCC (power)

## SP3485
designator U?
footprint SO8_M (SOIC, 8-Leads, Body 4.9x3.9mm, Pitch 1.27mm, IPC Low Density)
pins: 1 RO (out), 2 ~{RE} (in), 3 DE (in), 4 DI (in), 5 GND (power), 6 A (io), 7 B (io), 8 VCC (power)
text: R; D

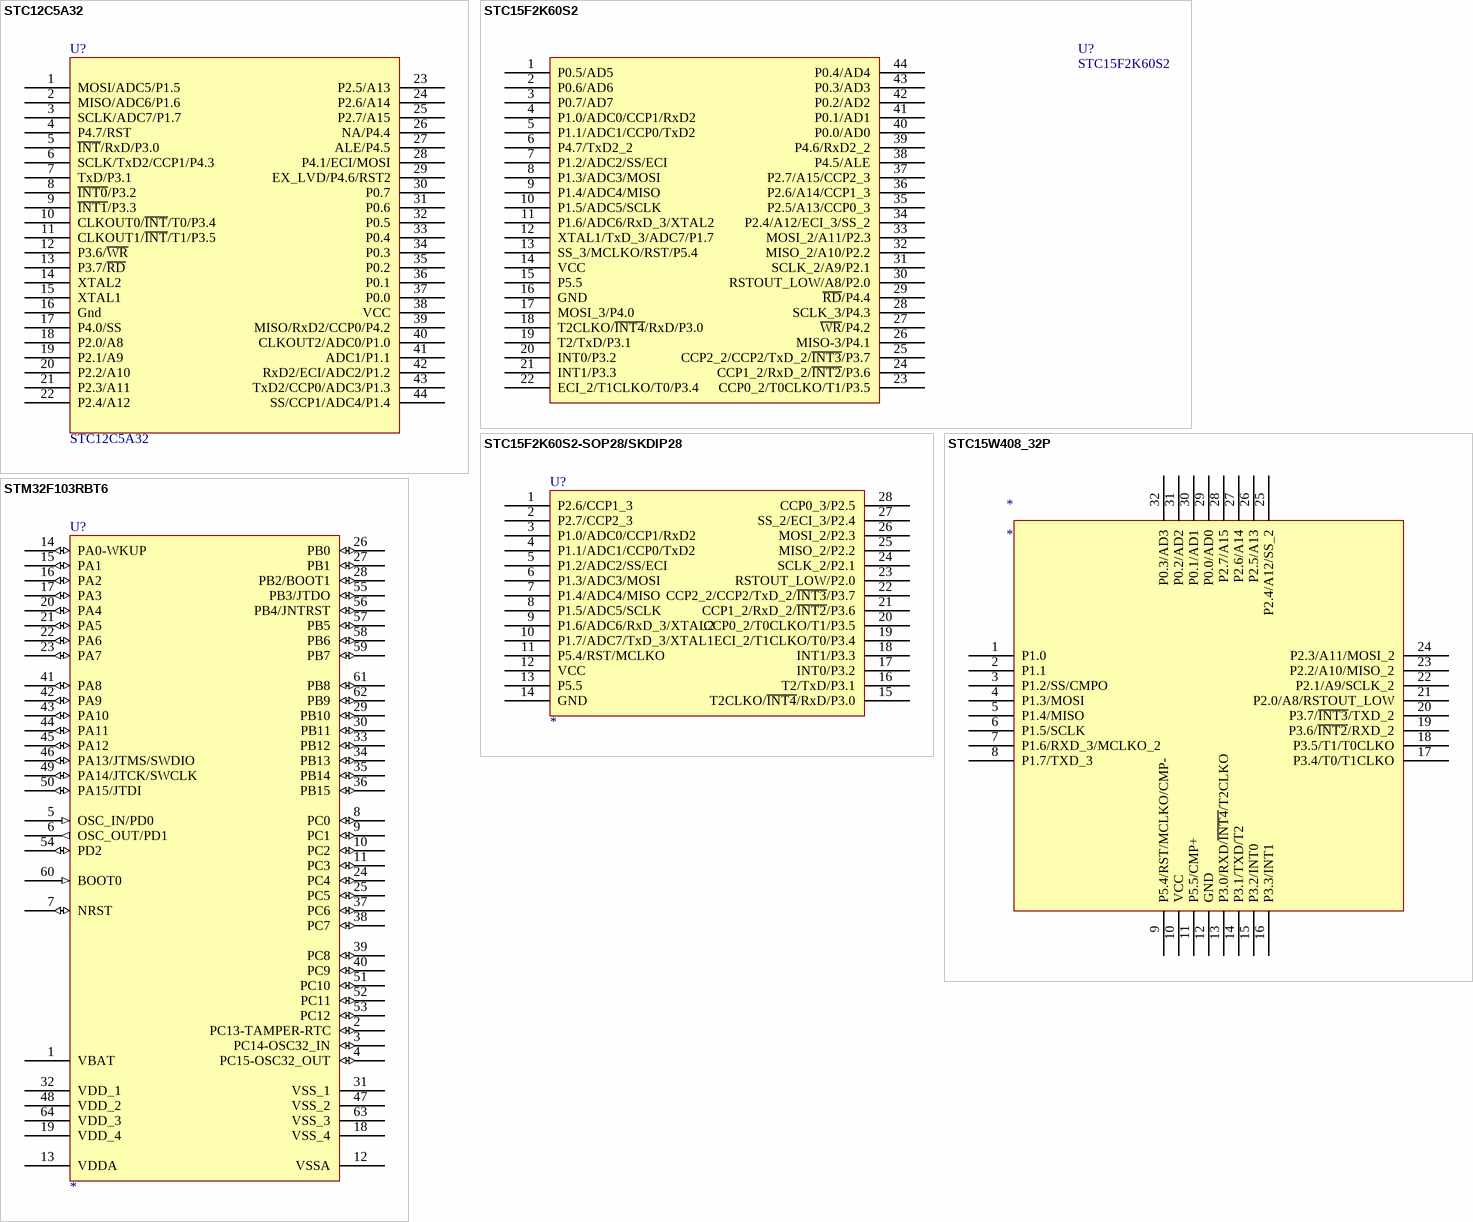
[diagram p2: symbols STC12C5A32 to STM32F103RBT6]

## STC12C5A32
designator U?
footprint QFP80P1320X1320-44N (QFP, 44-Leads, Body 10x10mm, Pitch 0.8mm, IPC Medium Density)
footprint QFP80P1320X1320-44M (QFP, 44-Leads, Body 10x10mm, Pitch 0.8mm, IPC Low Density)
pins: 1 MOSI/ADC5/P1.5, 2 MISO/ADC6/P1.6, 3 SCLK/ADC7/P1.7, 4 P4.7/RST, 5 ~{INT}/RxD/P3.0, 6 SCLK/TxD2/CCP1/P4.3, 7 TxD/P3.1, 8 ~{INT0}/P3.2, 9 ~{INT1}/P3.3, 10 CLKOUT0/~{INT}/T0/P3.4, 11 CLKOUT1/~{INT}/T1/P3.5, 12 P3.6/~{WR}, 13 P3.7/~{RD}, 14 XTAL2, 15 XTAL1, 16 Gnd, 17 P4.0/SS, 18 P2.0/A8, 19 P2.1/A9, 20 P2.2/A10, 21 P2.3/A11, 22 P2.4/A12, 23 P2.5/A13, 24 P2.6/A14, 25 P2.7/A15, 26 NA/P4.4, 27 ALE/P4.5, 28 P4.1/ECI/MOSI, 29 EX_LVD/P4.6/RST2, 30 P0.7, 31 P0.6, 32 P0.5, 33 P0.4, 34 P0.3, 35 P0.2, 36 P0.1, 37 P0.0, 38 VCC, 39 MISO/RxD2/CCP0/P4.2, 40 CLKOUT2/ADC0/P1.0, 41 ADC1/P1.1, 42 RxD2/ECI/ADC2/P1.2, 43 TxD2/CCP0/ADC3/P1.3, 44 SS/CCP1/ADC4/P1.4

## STC15F2K60S2
designator U?
LQFP44
footprint LQFP-44
footprint QFP80P1320X1320-44M (QFP, 44-Leads, Body 10x10mm, Pitch 0.8mm, IPC Low Density)
pins: 1 P0.5/AD5, 2 P0.6/AD6, 3 P0.7/AD7, 4 P1.0/ADC0/CCP1/RxD2, 5 P1.1/ADC1/CCP0/TxD2, 6 P4.7/TxD2_2, 7 P1.2/ADC2/SS/ECI, 8 P1.3/ADC3/MOSI, 9 P1.4/ADC4/MISO, 10 P1.5/ADC5/SCLK, 11 P1.6/ADC6/RxD_3/XTAL2, 12 XTAL1/TxD_3/ADC7/P1.7, 13 SS_3/MCLKO/RST/P5.4, 14 VCC (power), 15 P5.5, 16 GND (power), 17 MOSI_3/P4.0, 18 T2CLKO/~{INT4}/RxD/P3.0, 19 T2/TxD/P3.1, 20 INT0/P3.2, 21 INT1/P3.3, 22 ECI_2/T1CLKO/T0/P3.4, 23 CCP0_2/T0CLKO/T1/P3.5, 24 CCP1_2/RxD_2/~{INT2}/P3.6, 25 CCP2_2/CCP2/TxD_2/~{INT3}/P3.7, 26 MISO-3/P4.1, 27 ~{WR}/P4.2, 28 SCLK_3/P4.3, 29 ~{RD}/P4.4, 30 RSTOUT_LOW/A8/P2.0, 31 SCLK_2/A9/P2.1, 32 MISO_2/A10/P2.2, 33 MOSI_2/A11/P2.3, 34 P2.4/A12/ECI_3/SS_2, 35 P2.5/A13/CCP0_3, 36 P2.6/A14/CCP1_3, 37 P2.7/A15/CCP2_3, 38 P4.5/ALE, 39 P4.6/RxD2_2, 40 P0.0/AD0, 41 P0.1/AD1, 42 P0.2/AD2, 43 P0.3/AD3, 44 P0.4/AD4

## STC15F2K60S2-SOP28/SKDIP28
designator U?
footprint SOIC127P1047-28M (SOIC, 28-Leads, Body 18.2x7.5mm, Pitch 1.27mm, IPC Low Density)
pins: 1 P2.6/CCP1_3, 2 P2.7/CCP2_3, 3 P1.0/ADC0/CCP1/RxD2, 4 P1.1/ADC1/CCP0/TxD2, 5 P1.2/ADC2/SS/ECI, 6 P1.3/ADC3/MOSI, 7 P1.4/ADC4/MISO, 8 P1.5/ADC5/SCLK, 9 P1.6/ADC6/RxD_3/XTAL2, 10 P1.7/ADC7/TxD_3/XTAL1, 11 P5.4/RST/MCLKO, 12 VCC (power), 13 P5.5, 14 GND (power), 15 T2CLKO/~{INT4}/RxD/P3.0, 16 T2/TxD/P3.1, 17 INT0/P3.2, 18 INT1/P3.3, 19 ECI_2/T1CLKO/T0/P3.4, 20 CCP0_2/T0CLKO/T1/P3.5, 21 CCP1_2/RxD_2/~{INT2}/P3.6, 22 CCP2_2/CCP2/TxD_2/~{INT3}/P3.7, 23 RSTOUT_LOW/P2.0, 24 SCLK_2/P2.1, 25 MISO_2/P2.2, 26 MOSI_2/P2.3, 27 SS_2/ECI_3/P2.4, 28 CCP0_3/P2.5

## STC15W408_32P
designator *
footprint LQFP32
pins: 1 P1.0, 2 P1.1, 3 P1.2/SS/CMPO, 4 P1.3/MOSI, 5 P1.4/MISO, 6 P1.5/SCLK, 7 P1.6/RXD_3/MCLKO_2, 8 P1.7/TXD_3, 9 P5.4/RST/MCLKO/CMP-, 10 VCC, 11 P5.5/CMP+, 12 GND, 13 P3.0/RXD/~{INT4}/T2CLKO, 14 P3.1/TXD/T2, 15 P3.2/INT0, 16 P3.3/INT1, 17 P3.4/T0/T1CLKO, 18 P3.5/T1/T0CLKO, 19 P3.6/~{INT2}/RXD_2, 20 P3.7/~{INT3}/TXD_2, 21 P2.0/A8/RSTOUT_LOW, 22 P2.1/A9/SCLK_2, 23 P2.2/A10/MISO_2, 24 P2.3/A11/MOSI_2, 25 P2.4/A12/SS_2, 26 P2.5/A13, 27 P2.6/A14, 28 P2.7/A15, 29 P0.0/AD0, 30 P0.1/AD1, 31 P0.2/AD2, 32 P0.3/AD3

## STM32F103RBT6
designator U?
STM32 ARM-based 32-bit MCU with 128 Kbytes Flash, 64-pin LQFP, Industrial Temperature; Published: *; DatasheetVersion: *; PackageVersion: *; PackageReference: *; Publisher: *; PackageDescription: *; ComponentLink1Description: *; ComponentLink1URL: *; ComponentLink2Description: *; ComponentLink2URL: *
footprint LQFP64_M
pins: 1 VBAT (power), 2 PC13-TAMPER-RTC (io), 3 PC14-OSC32_IN (io), 4 PC15-OSC32_OUT (io), 5 OSC_IN/PD0 (in), 6 OSC_OUT/PD1 (out), 7 NRST (io), 8 PC0 (io), 9 PC1 (io), 10 PC2 (io), 11 PC3 (io), 12 VSSA (power), 13 VDDA (power), 14 PA0-WKUP (io), 15 PA1 (io), 16 PA2 (io), 17 PA3 (io), 18 VSS_4 (power), 19 VDD_4 (power), 20 PA4 (io), 21 PA5 (io), 22 PA6 (io), 23 PA7 (io), 24 PC4 (io), 25 PC5 (io), 26 PB0 (io), 27 PB1 (io), 28 PB2/BOOT1 (io), 29 PB10 (io), 30 PB11 (io), 31 VSS_1 (power), 32 VDD_1 (power), 33 PB12 (io), 34 PB13 (io), 35 PB14 (io), 36 PB15 (io), 37 PC6 (io), 38 PC7 (io), 39 PC8 (io), 40 PC9 (io), 41 PA8 (io), 42 PA9 (io), 43 PA10 (io), 44 PA11 (io), 45 PA12 (io), 46 PA13/JTMS/SWDIO (io), 47 VSS_2 (power), 48 VDD_2 (power), 49 PA14/JTCK/SWCLK (io), 50 PA15/JTDI (io), 51 PC10 (io), 52 PC11 (io), 53 PC12 (io), 54 PD2 (io), 55 PB3/JTDO (io), 56 PB4/JNTRST (io), 57 PB5 (io), 58 PB6 (io), 59 PB7 (io), 60 BOOT0 (in), 61 PB8 (io), 62 PB9 (io), 63 VSS_3 (power), 64 VDD_3 (power)
2 alternate drawings of the same symbol

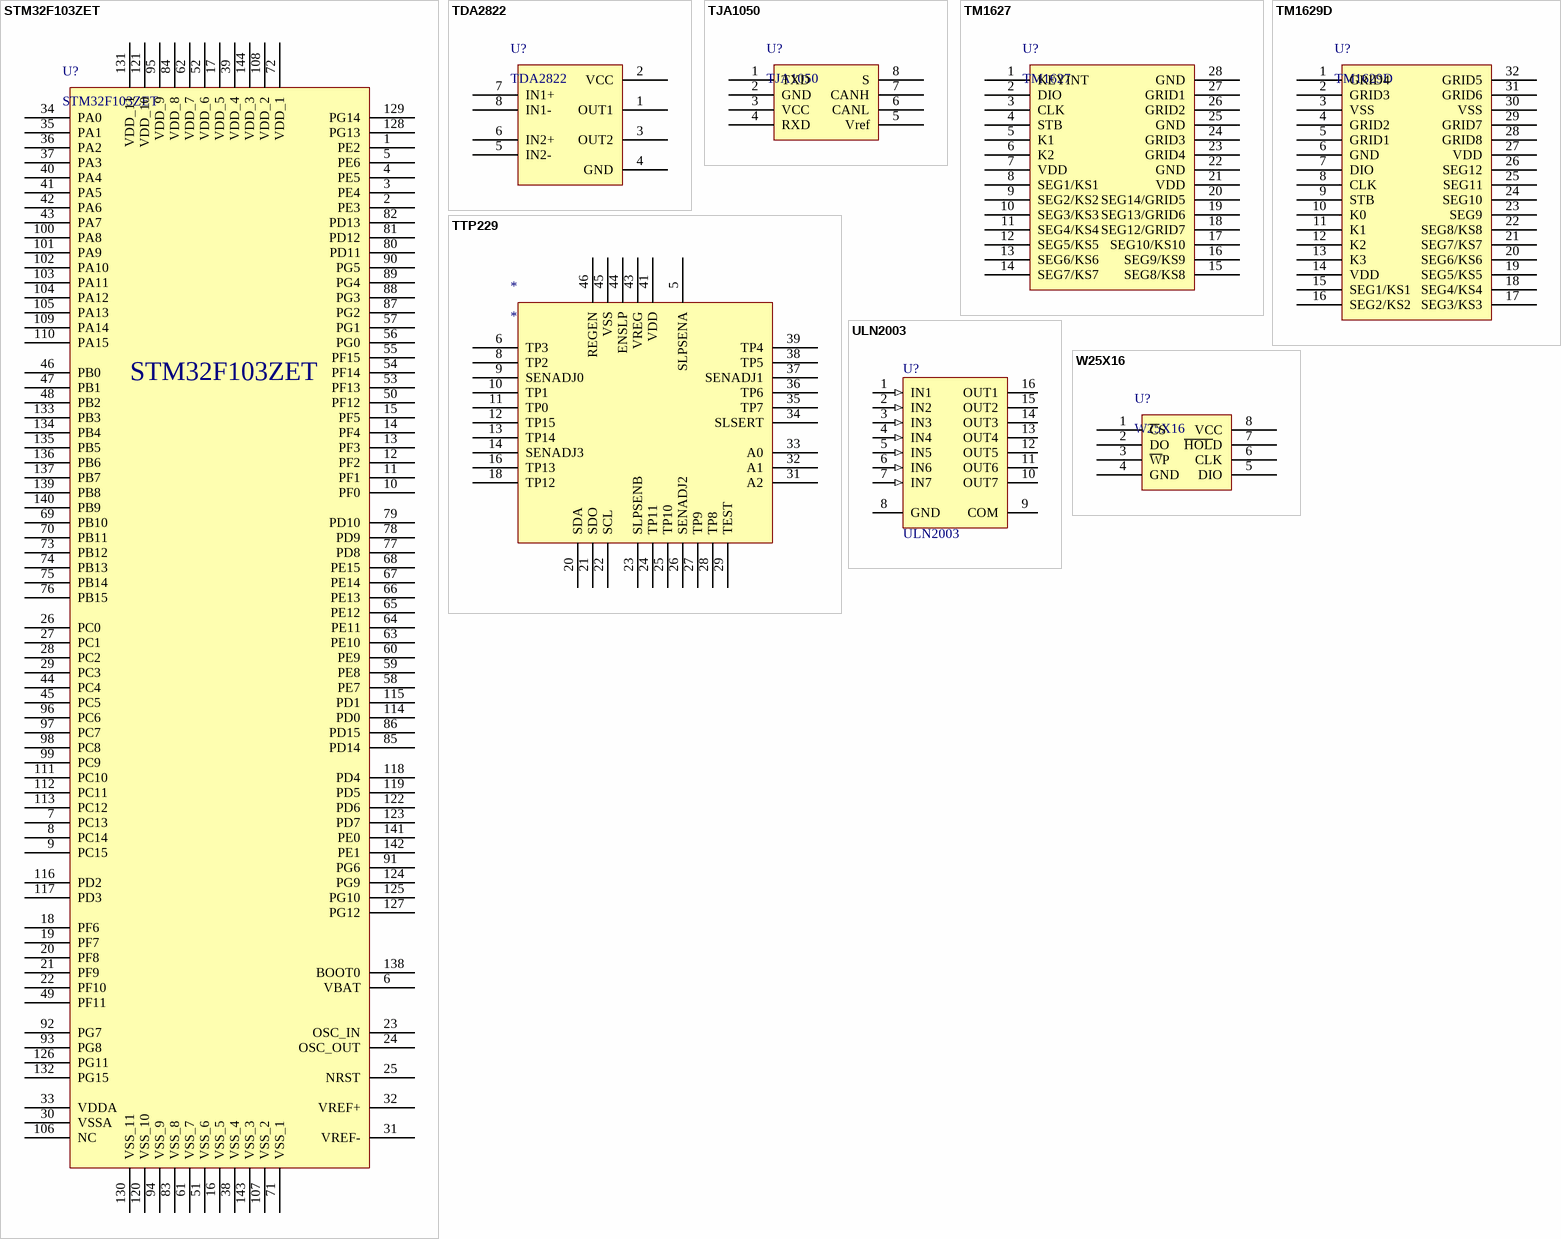
[diagram p3: symbols STM32F103ZET to W25X16]

## STM32F103ZET
designator U?
footprint SQFP50P2200X2200-144M (Shrink QFP, 144-Leads, Body 20x20mm, Pitch 0.5mm, IPC Low Density)
footprint SQFP50P2200X2200-144N (Shrink QFP, 144-Leads, Body 20x20mm, Pitch 0.5mm, IPC Medium Density)
pins: 1 PE2, 2 PE3, 3 PE4, 4 PE5, 5 PE6, 6 VBAT, 7 PC13, 8 PC14, 9 PC15, 10 PF0, 11 PF1, 12 PF2, 13 PF3, 14 PF4, 15 PF5, 16 VSS_5, 17 VDD_5, 18 PF6, 19 PF7, 20 PF8, 21 PF9, 22 PF10, 23 OSC_IN, 24 OSC_OUT, 25 NRST, 26 PC0, 27 PC1, 28 PC2, 29 PC3, 30 VSSA, 31 VREF-, 32 VREF+, 33 VDDA, 34 PA0, 35 PA1, 36 PA2, 37 PA3, 38 VSS_4, 39 VDD_4, 40 PA4, 41 PA5, 42 PA6, 43 PA7, 44 PC4, 45 PC5, 46 PB0, 47 PB1, 48 PB2, 49 PF11, 50 PF12, 51 VSS_6, 52 VDD_6, 53 PF13, 54 PF14, 55 PF15, 56 PG0, 57 PG1, 58 PE7, 59 PE8, 60 PE9, 61 VSS_7, 62 VDD_7, 63 PE10, 64 PE11, 65 PE12, 66 PE13, 67 PE14, 68 PE15, 69 PB10, 70 PB11, 71 VSS_1, 72 VDD_1, 73 PB12, 74 PB13, 75 PB14, 76 PB15, 77 PD8, 78 PD9, 79 PD10, 80 PD11, 81 PD12, 82 PD13, 83 VSS_8, 84 VDD_8, 85 PD14, 86 PD15, 87 PG2, 88 PG3, 89 PG4, 90 PG5, 91 PG6, 92 PG7, 93 PG8, 94 VSS_9, 95 VDD_9, 96 PC6, 97 PC7, 98 PC8, 99 PC9, 100 PA8, 101 PA9, 102 PA10, 103 PA11, 104 PA12, 105 PA13, 106 NC, 107 VSS_2, 108 VDD_2, 109 PA14, 110 PA15, 111 PC10, 112 PC11, 113 PC12, 114 PD0, 115 PD1, 116 PD2, 117 PD3, 118 PD4, 119 PD5, 120 VSS_10, 121 VDD_10, 122 PD6, 123 PD7, 124 PG9, 125 PG10, 126 PG11, 127 PG12, 128 PG13, 129 PG14, 130 VSS_11, 131 VDD_11, 132 PG15, 133 PB3, 134 PB4, 135 PB5, 136 PB6, 137 PB7, 138 BOOT0, 139 PB8, 140 PB9, 141 PE0, 142 PE1, 143 VSS_3, 144 VDD_3

## TDA2822
designator U?
footprint SO8_M (SOIC, 8-Leads, Body 4.9x3.9mm, Pitch 1.27mm, IPC Low Density)
pins: 1 OUT1, 2 VCC, 3 OUT2, 4 GND, 5 IN2-, 6 IN2+, 7 IN1+, 8 IN1-

## TJA1050
designator U?
footprint SO8_M (SOIC, 8-Leads, Body 4.9x3.9mm, Pitch 1.27mm, IPC Low Density)
pins: 1 TXD, 2 GND, 3 VCC, 4 RXD, 5 Vref, 6 CANL, 7 CANH, 8 S

## TM1627
designator U?
footprint SOIC127P1047-28M (SOIC, 28-Leads, Body 18.2x7.5mm, Pitch 1.27mm, IPC Low Density)
pins: 1 KEYINT, 2 DIO, 3 CLK, 4 STB, 5 K1, 6 K2, 7 VDD, 8 SEG1/KS1, 9 SEG2/KS2, 10 SEG3/KS3, 11 SEG4/KS4, 12 SEG5/KS5, 13 SEG6/KS6, 14 SEG7/KS7, 15 SEG8/KS8, 16 SEG9/KS9, 17 SEG10/KS10, 18 SEG12/GRID7, 19 SEG13/GRID6, 20 SEG14/GRID5, 21 VDD, 22 GND, 23 GRID4, 24 GRID3, 25 GND, 26 GRID2, 27 GRID1, 28 GND

## TM1629D
designator U?
footprint SOIC127P1047-32M (SOIC, 32-Leads, Body 20.8x7.5mm, Pitch 1.27mm, IPC Low Density)
pins: 1 GRID4, 2 GRID3, 3 VSS, 4 GRID2, 5 GRID1, 6 GND, 7 DIO, 8 CLK, 9 STB, 10 K0, 11 K1, 12 K2, 13 K3, 14 VDD, 15 SEG1/KS1, 16 SEG2/KS2, 17 SEG3/KS3, 18 SEG4/KS4, 19 SEG5/KS5, 20 SEG6/KS6, 21 SEG7/KS7, 22 SEG8/KS8, 23 SEG9, 24 SEG10, 25 SEG11, 26 SEG12, 27 VDD, 28 GRID8, 29 GRID7, 30 VSS, 31 GRID6, 32 GRID5

## TTP229
designator *
footprint SOP64P1040X279-48N
pins: 5 SLPSENA, 6 TP3, 8 TP2, 9 SENADJ0, 10 TP1, 11 TP0, 12 TP15, 13 TP14, 14 SENADJ3, 16 TP13, 18 TP12, 20 SDA, 21 SDO, 22 SCL, 23 SLPSENB, 24 TP11, 25 TP10, 26 SENADJ2, 27 TP9, 28 TP8, 29 TEST, 31 A2, 32 A1, 33 A0, 34 SLSERT, 35 TP7, 36 TP6, 37 SENADJ1, 38 TP5, 39 TP4, 41 VDD, 43 VREG, 44 ENSLP, 45 VSS, 46 REGEN

## ULN2003
designator U?
Seven Darlington Array; Published: 8-Jun-2000; LatestRevisionDate: 13-Apr-2006; LatestRevisionNote: IPC-7351 Footprint Added.; DatasheetVersion: Sep-1998; PackageVersion: May-1998; PackageReference: SO16; Publisher: Altium Limited; PackageDescription: 16-Pin Small Outline Integrated Circuit 1.27 mm Pitch; Code_IPC: SOIC127P600-16; ComponentLink1Description: Manufacturer Link; ComponentLink1URL: http://www.st.com/; ComponentLink2Description: Datasheet; ComponentLink2URL: http://www.st.com/stonline/products/literature/ds/5279/uln2001.pdf
footprint SO16_M (SOIC, 16-Leads, Body 9.9x3.9mm, Pitch 1.27mm, IPC Low Density)
pins: 1 IN1 (in), 2 IN2 (in), 3 IN3 (in), 4 IN4 (in), 5 IN5 (in), 6 IN6 (in), 7 IN7 (in), 8 GND (power), 9 COM, 10 OUT7 (oc), 11 OUT6 (oc), 12 OUT5 (oc), 13 OUT4 (oc), 14 OUT3 (oc), 15 OUT2 (oc), 16 OUT1 (oc)

## W25X16
designator U?
footprint SOP127P780-8M (SOP, 8-Leads, Body 5.3x5.3mm, Pitch 1.27mm, IPC Low Density)
footprint DIP-8 (DIP, 8-Pin, Row Spacing 7.62 mm, Pitch 2.54 mm)
pins: 1 ~{C}S, 2 DO, 3 ~{W}P, 4 GND, 5 DIO, 6 CLK, 7 ~{HOL}D, 8 VCC